# Altium footprint library LTC3854.PcbLib: 1 footprints
Each footprint in its own frame and in the unit in brackets; x right, y up, seen from the top. Pads: shape width x height; smd on the part's side, far side on the other; paste and mask are expansions set on the pad; w line width, h text height; cw(c..) or ccw(c..) is an arc to the next point about the centre after c.
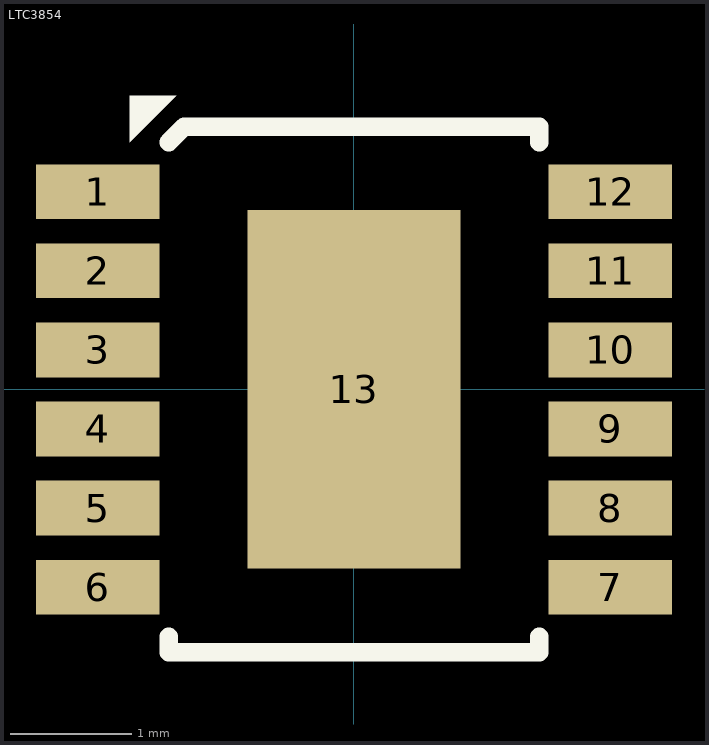
[diagram p0: the footprint, top view; thin cyan lines are the x and y axes]

## LTC3854 [mm] "Linear Technology LTC3854 MSE MSOP-12"
height 1.1
pads (13):
  rect 1.016x0.45 smd mask+0.001: 1(-2.107,1.625) 2(-2.107,0.975) 3(-2.107,0.325) 4(-2.107,-0.325) 5(-2.107,-0.975) 6(-2.107,-1.625) 7(2.108,-1.625) 8(2.108,-0.975) 9(2.108,-0.325) 10(2.108,0.325) 11(2.108,0.975) 12(2.108,1.625)
  rect 1.753x2.947 smd paste-50 mask+0.05: 13(0,0)
Top Overlay:
  region: -1.841,2.413 -1.841,2.032 -1.46,2.413
  lines w0.152: -1.524,-2.032 -1.524,-2.159 1.524,-2.159 1.524,-2.032 ; -1.524,2.032 -1.397,2.159 1.524,2.159 1.524,2.032
Top Paste:
  rectangle: -0.635,0.2 -0.127,1.2
  rectangle: 0.127,0.2 0.635,1.2
  rectangle: -0.635,-1.2 -0.127,-0.2
  rectangle: 0.127,-1.2 0.635,-0.2